# Altium schematic symbol library SCH - CONNECTORS - 16 PIN.SCHLIB: 1 symbol
Pins are listed as number, name and electrical type; pins without a type are passive.

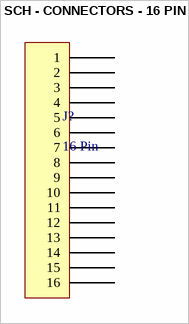
[diagram p0: symbol SCH - CONNECTORS - 16 PIN]

## SCH - CONNECTORS - 16 PIN
designator J?, comment 16 Pin
pins: 1, 2, 3, 4, 5, 6, 7, 8, 9, 10, 11, 12, 13, 14, 15, 16